# Altium schematic symbol library PCF2131TFY.SchLib: 1 symbol
Pins are listed as number, name and electrical type; pins without a type are passive.

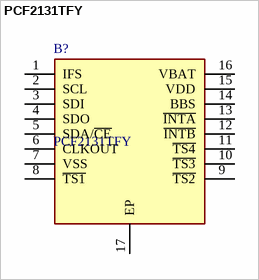
[diagram p0: symbol PCF2131TFY]

## PCF2131TFY
designator B?
Real Time Clock Accurate RTC with integrated quartz crystal for industrial applications; Manufacturer_Name: NXP; Geometry.Height: 1.5mm; Mouser Part Number: 771-PCF2131TFY; Mouser Price/Stock: https://www.mouser.co.uk/ProductDetail/NXP-Semiconductors/PCF2131TFY?qs=QNEnbhJQKvbnVL67jlWDOg%3D%3D; Manufacturer_Part_Number: PCF2131TFY; Datasheet Link: https://www.nxp.com/docs/en/data-sheet/PCF2131DS.pdf
footprint SON50P350X450X150-17N-D
pins: 1 IFS, 2 SCL, 3 SDI, 4 SDO, 5 SDA/~{CE}, 6 CLKOUT, 7 VSS, 8 ~{TS1}, 9 ~{TS2}, 10 ~{TS3}, 11 ~{TS4}, 12 ~{INTB}, 13 ~{INTA}, 14 BBS, 15 VDD, 16 VBAT, 17 EP